# Altium integrated library B0310J50100AHF.IntLib: 1 symbol
Pins are listed as number, name and electrical type; pins without a type are passive.

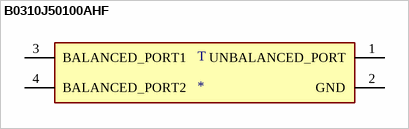
[diagram p0: symbol B0310J50100AHF]

## B0310J50100AHF
designator T
RF Balun 300MHz ~ 1GHz 50 / 100Ohm 0805 _2012 Metric_; MP: B0310J50100AHF; MF: Anaren; SnapEDA_Link: https://www.snapeda.com/parts/B0310J50100AHF/Anaren/view-part/602626/?ref=snap; Availability: Unavailable; Price: None; Value: *; Package: 0805 Anaren Microwave
footprint XFMR_B0310J50100AHF
pins: 1 UNBALANCED_PORT, 2 GND (power), 3 BALANCED_PORT1, 4 BALANCED_PORT2